# Altium schematic symbol library AD.SchLib: 11 symbols
Pins are listed as number, name and electrical type; pins without a type are passive.

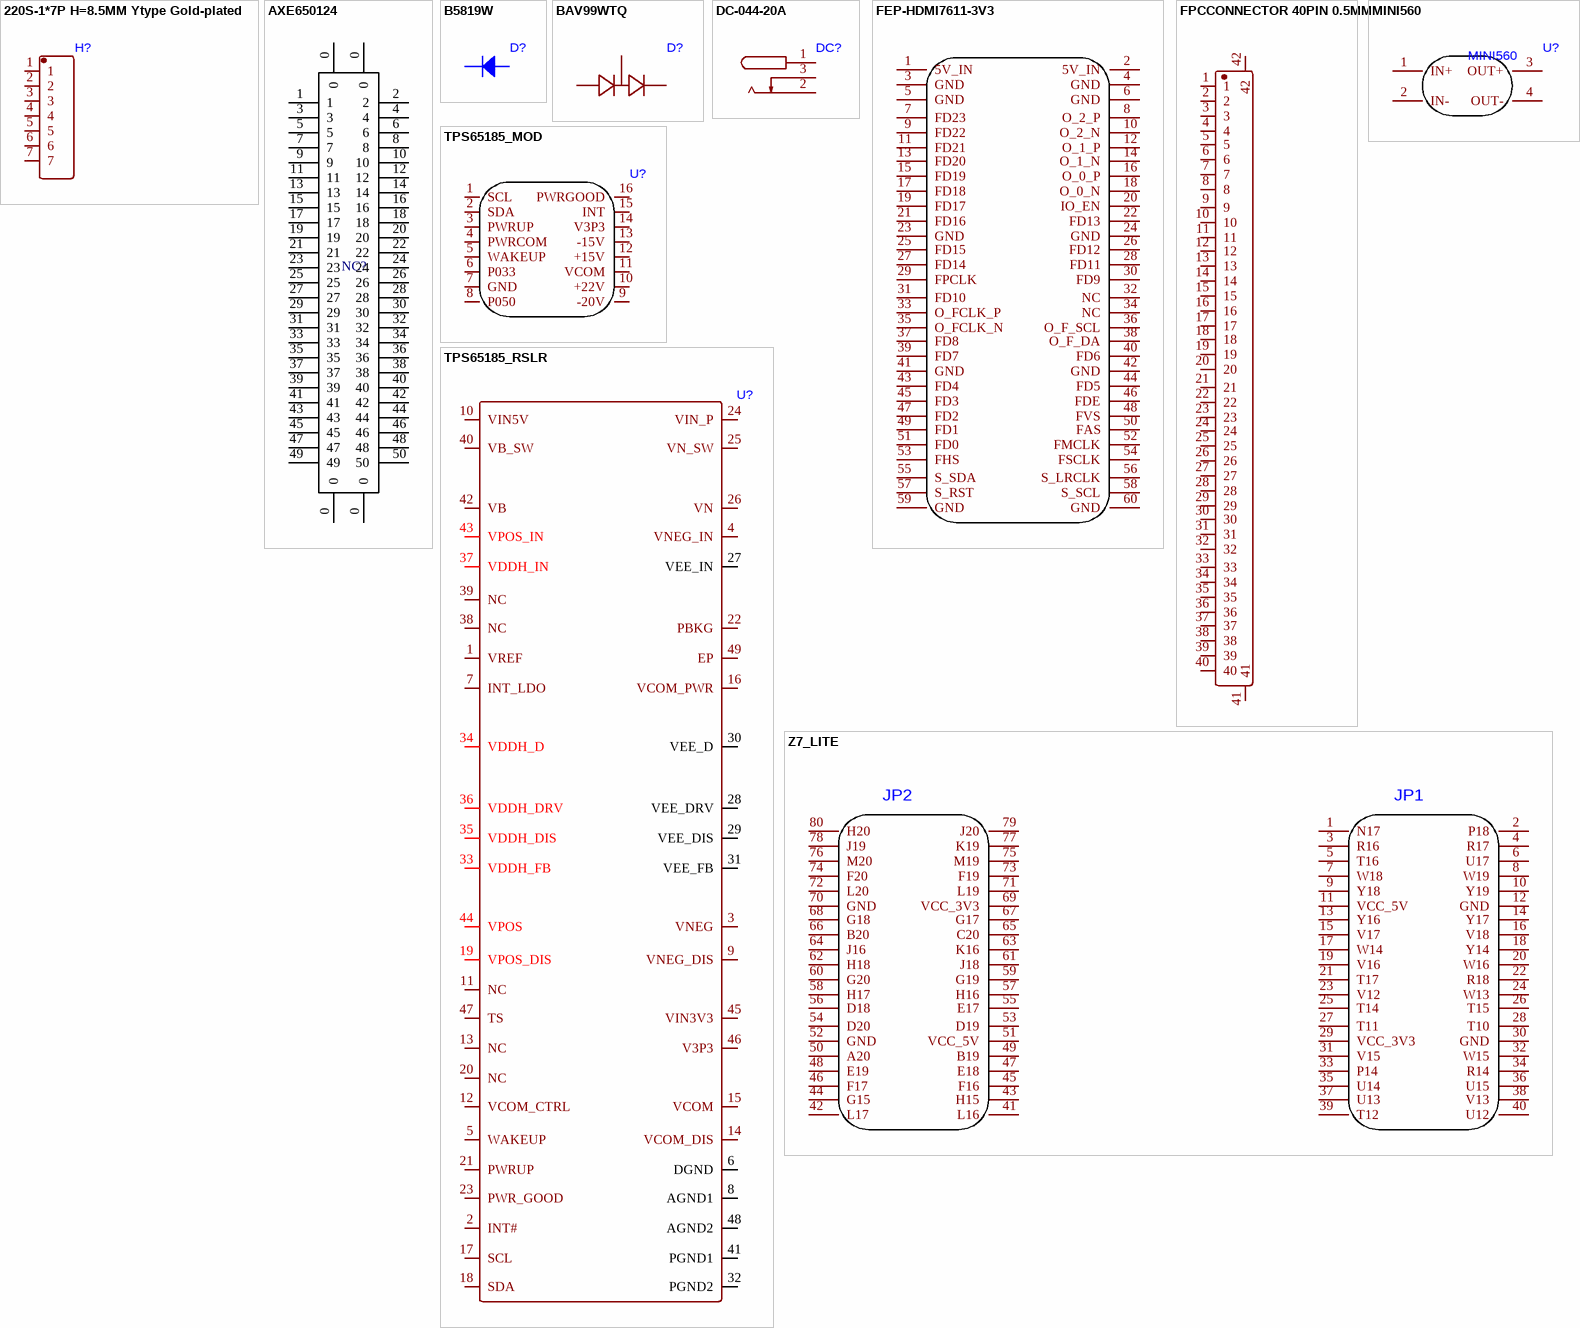
[diagram p0: symbols 220S-1*7P H=8.5MM Ytype Gold-plated to Z7_LITE]

## 220S-1*7P H=8.5MM Ytype Gold-plated
designator H?
footprint HDR-TH_7P-P2.54-V-F
pins: 1, 2, 3, 4, 5, 6, 7

## AXE650124
designator NC?
footprint AXE650124
pins: 0, 0, 0, 0, 1, 2, 3, 4, 5, 6, 7, 8, 9, 10, 11, 12, 13, 14, 15, 16, 17, 18, 19, 20, 21, 22, 23, 24, 25, 26, 27, 28, 29, 30, 31, 32, 33, 34, 35, 36, 37, 38, 39, 40, 41, 42, 43, 44, 45, 46, 47, 48, 49, 50

## B5819W
designator D?
footprint SOD-123_L2.8-W1.8-LS3.7-RD
pins: 1 K, 2 A

## BAV99WTQ
designator D?
footprint SOT-323-3_L2.0-W1.3-P1.30-LS2.1-BR
pins: 1, 2, 3

## DC-044-20A
designator DC?
footprint DC-IN-TH_DC-044-20A
pins: 1, 2, 3

## FEP-HDMI7611-3V3
designator U?
footprint CONN-SMD_5177983-2 (Footprint not found)
pins: 1 5V_IN, 2 5V_IN, 3 GND, 4 GND, 5 GND, 6 GND, 7 FD23, 8 O_2_P, 9 FD22, 10 O_2_N, 11 FD21, 12 O_1_P, 13 FD20, 14 O_1_N, 15 FD19, 16 O_0_P, 17 FD18, 18 O_0_N, 19 FD17, 20 IO_EN, 21 FD16, 22 FD13, 23 GND, 24 GND, 25 FD15, 26 FD12, 27 FD14, 28 FD11, 29 FPCLK, 30 FD9, 31 FD10, 32 NC, 33 O_FCLK_P, 34 NC, 35 O_FCLK_N, 36 O_F_SCL, 37 FD8, 38 O_F_DA, 39 FD7, 40 FD6, 41 GND, 42 GND, 43 FD4, 44 FD5, 45 FD3, 46 FDE, 47 FD2, 48 FVS, 49 FD1, 50 FAS, 51 FD0, 52 FMCLK, 53 FHS, 54 FSCLK, 55 S_SDA, 56 S_LRCLK, 57 S_RST, 58 S_SCL, 59 GND, 60 GND

## FPCCONNECTOR 40PIN 0.5MM
designator P?
footprint FPC-SMD_40P-P0.50_FG-H2.0-40P
pins: 1, 2, 3, 4, 5, 6, 7, 8, 9, 10, 11, 12, 13, 14, 15, 16, 17, 18, 19, 20, 21, 22, 23, 24, 25, 26, 27, 28, 29, 30, 31, 32, 33, 34, 35, 36, 37, 38, 39, 40, 41, 42

## MINI560
designator U?
footprint MINI560
pins: 1 IN+, 2 IN-, 3 OUT+, 4 OUT-

## TPS65185_MOD
designator U?
footprint TPS65185_MOD
pins: 1 SCL, 2 SDA, 3 PWRUP, 4 PWRCOM, 5 WAKEUP, 6 P033, 7 GND, 8 P050, 9 -20V, 10 +22V, 11 VCOM, 12 +15V, 13 -15V, 14 V3P3, 15 INT, 16 PWRGOOD

## TPS65185_RSLR
designator U?
footprint TPS65185_RSLR
pins: 1 VREF, 2 INT#, 3 VNEG, 4 VNEG_IN, 5 WAKEUP, 6 DGND, 7 INT_LDO, 8 AGND1, 9 VNEG_DIS, 10 VIN5V, 11 NC, 12 VCOM_CTRL, 13 NC, 14 VCOM_DIS, 15 VCOM, 16 VCOM_PWR, 17 SCL, 18 SDA, 19 VPOS_DIS, 20 NC, 21 PWRUP, 22 PBKG, 23 PWR_GOOD, 24 VIN_P, 25 VN_SW, 26 VN, 27 VEE_IN, 28 VEE_DRV, 29 VEE_DIS, 30 VEE_D, 31 VEE_FB, 32 PGND2, 33 VDDH_FB, 34 VDDH_D, 35 VDDH_DIS, 36 VDDH_DRV, 37 VDDH_IN, 38 NC, 39 NC, 40 VB_SW, 41 PGND1, 42 VB, 43 VPOS_IN, 44 VPOS, 45 VIN3V3, 46 V3P3, 47 TS, 48 AGND2, 49 EP

## Z7_LITE
designator U?
footprint Z7_LITE
pins: 1 N17, 2 P18, 3 R16, 4 R17, 5 T16, 6 U17, 7 W18, 8 W19, 9 Y18, 10 Y19, 11 VCC_5V, 12 GND, 13 Y16, 14 Y17, 15 V17, 16 V18, 17 W14, 18 Y14, 19 V16, 20 W16, 21 T17, 22 R18, 23 V12, 24 W13, 25 T14, 26 T15, 27 T11, 28 T10, 29 VCC_3V3, 30 GND, 31 V15, 32 W15, 33 P14, 34 R14, 35 U14, 36 U15, 37 U13, 38 V13, 39 T12, 40 U12, 41 L16, 42 L17, 43 H15, 44 G15, 45 F16, 46 F17, 47 E18, 48 E19, 49 B19, 50 A20, 51 VCC_5V, 52 GND, 53 D19, 54 D20, 55 E17, 56 D18, 57 H16, 58 H17, 59 G19, 60 G20, 61 J18, 62 H18, 63 K16, 64 J16, 65 C20, 66 B20, 67 G17, 68 G18, 69 VCC_3V3, 70 GND, 71 L19, 72 L20, 73 F19, 74 F20, 75 M19, 76 M20, 77 K19, 78 J19, 79 J20, 80 H20
text: JP2; JP1